# Altium footprint library General.PcbLib: 17 footprints (part 1 of 2)
Each footprint in its own frame and in the unit in brackets; x right, y up, seen from the top. Pads: shape width x height; smd on the part's side, far side on the other; paste and mask are expansions set on the pad; w line width, h text height; cw(c..) or ccw(c..) is an arc to the next point about the centre after c.
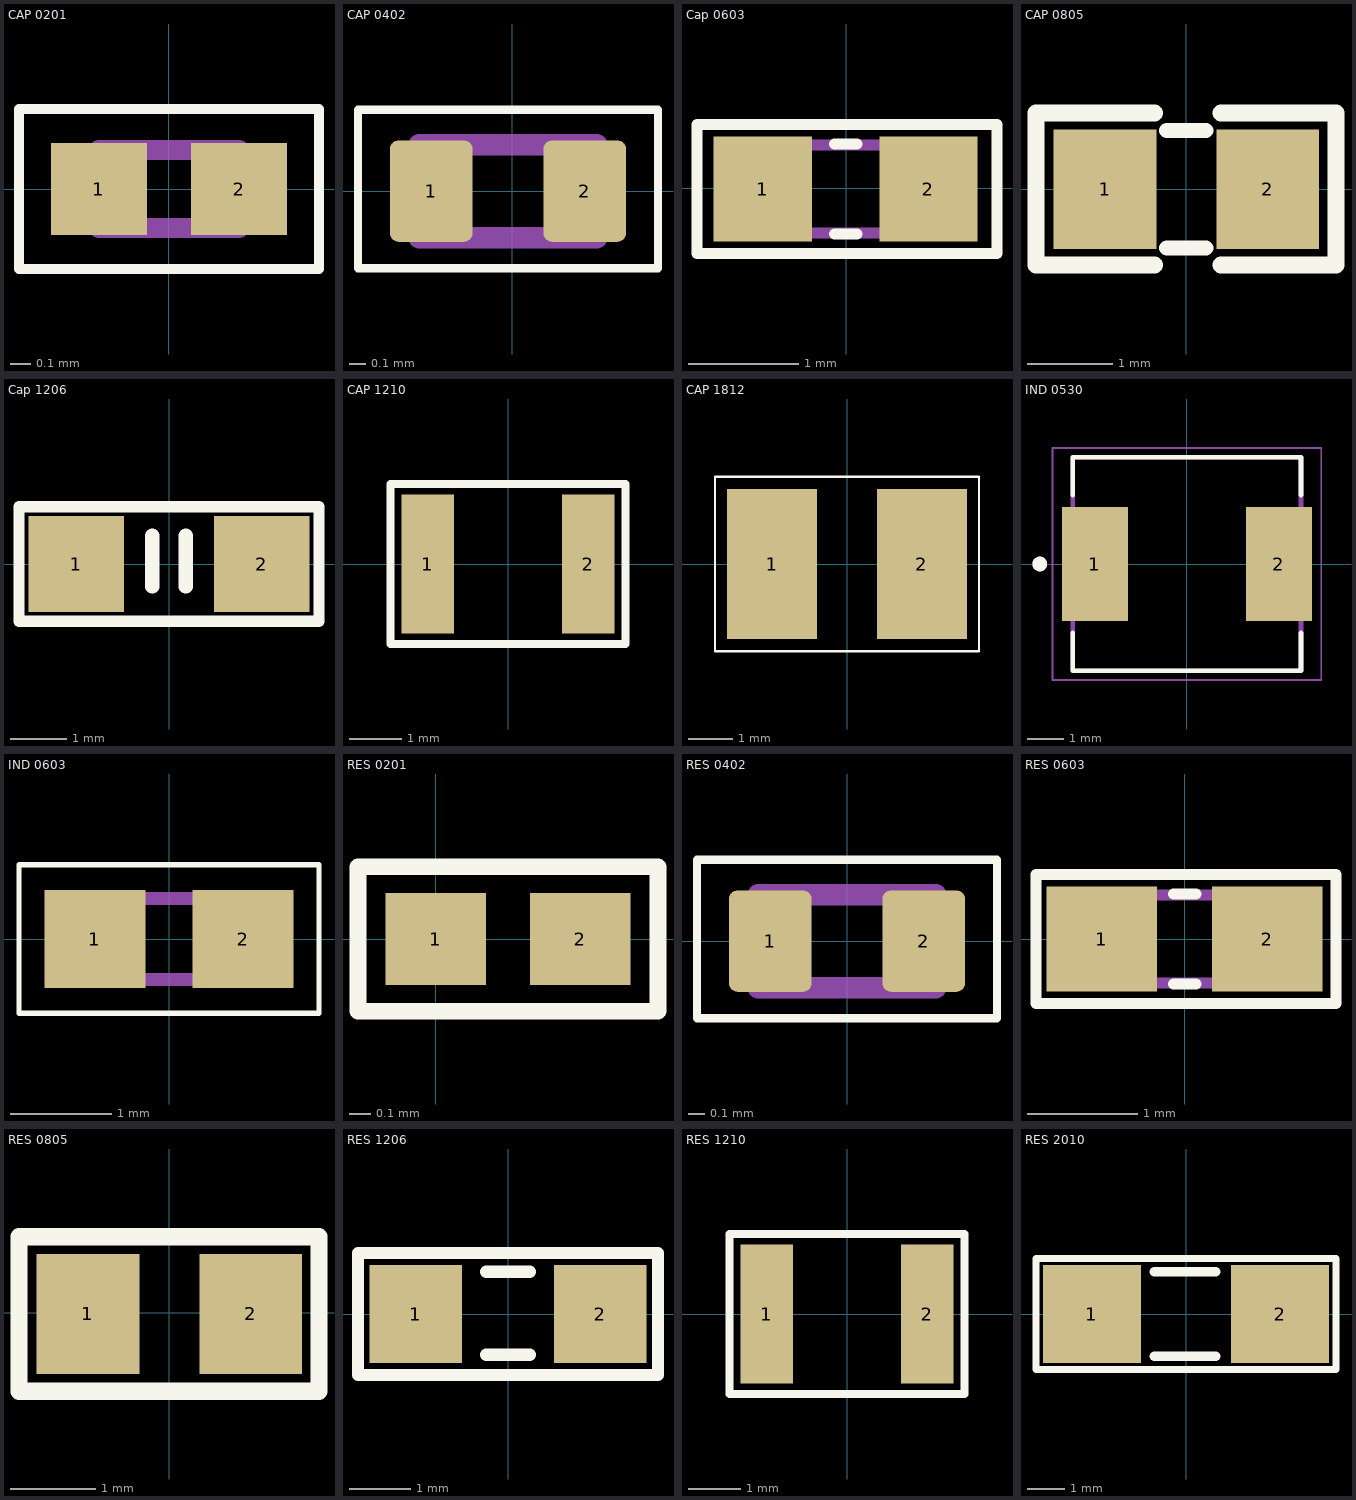
[diagram p0: the footprints below, top view; thin cyan lines are the x and y axes]

## CAP 0201 [mm] "Chip Capacitor, 2-Leads, Body 0.65x0.35mm, IPC Medium Density"
height 0.3
pads (2):
  rect 0.48x0.46 smd: 1(-0.35,0) 2(0.35,0)
Top Overlay:
  lines w0.05: -0.75,-0.4 -0.75,0.4 0.75,0.4 0.75,-0.4 -0.75,-0.4
Mechanical 13:
  lines w0.1: -0.35,-0.195 0.35,-0.195 0.35,0.195 -0.35,0.195 -0.35,-0.195
3D body "C0201.stp": height 0.32, standoff 0.02, extent -0.3,-0.15 0.3,0.15

## CAP 0402 [mm]
pads (2):
  rrect20% 0.49x0.6 smd: 1(-0.48,0) 2(0.43,0)
Top Overlay:
  lines w0.05: -0.914,-0.457 0.864,-0.457 0.864,0.483 -0.914,0.483 -0.914,-0.457
Mechanical 13:
  lines w0.127: -0.55,-0.275 0.5,-0.275 0.5,0.275 -0.55,0.275 -0.55,-0.275
3D body "C0402.stp": height 0.5, standoff 0, extent -0.525,-0.254 0.475,0.246

## Cap 0603 [mm]
height 5.08
pads (2):
  rect 0.889x0.95 smd mask+0.076: 1(-0.758,-0.008) 2(0.742,-0.008)
Top Overlay:
  lines w0.102: -0.109,-0.415 0.094,-0.415 ; -0.109,0.398 0.094,0.398 ; -1.354,-0.592 1.364,-0.592 1.364,0.576 -1.354,0.576 -1.354,-0.592
Mechanical 13:
  lines w0.1: -0.808,-0.408 0.792,-0.408 0.792,0.392 -0.808,0.392 -0.808,-0.408
3D body "C0603.stp": height 0.78, standoff -0.02, extent -0.775,-0.406 0.825,0.394

## CAP 0805 [mm] "Compoment SMD 80x50mil"
height 1.27
pads (2):
  rect 1.2x1.4 smd: 1(-0.946,-0.003) 2(0.954,-0.003)
Top Overlay:
  lines w0.178: -0.224,-0.689 0.233,-0.689 ; -0.224,0.682 0.233,0.682
  lines w0.2: -0.367,-0.889 -1.753,-0.889 -1.753,0.889 -0.367,0.889 ; 0.408,-0.889 1.753,-0.889 1.753,0.889 0.408,0.889
3D body "C0805.stp": height 1.23, standoff -0.02, extent -0.974,-0.615 1.026,0.635

## Cap 1206 [mm]
height 1.1
pads (2):
  rect 1.7x1.7 smd: 1(-1.65,0) 2(1.65,0)
Top Overlay:
  lines w0.2: -2.667,-1.016 -2.667,1.016 2.667,1.016 2.667,-0.483 2.667,-1.016 -2.667,-1.016
  lines w0.254: -0.3,-0.4 -0.3,0.5 ; 0.3,-0.4 0.3,0.5
3D body "1206 SMD Capacitor.step": height 1.02, standoff 0.02, extent -1.6,-0.8 1.6,0.8

## CAP 1210 [mm] "Chip Capacitor, 2-Leads, Body 3.20x2.50mm, IPC Medium Density"
height 1.7
pads (2):
  rect 1x2.65 smd: 1(-1.525,0) 2(1.525,0)
Top Overlay:
  lines w0.152: -2.235,-1.524 2.235,-1.524 2.235,1.524 -2.235,1.524 -2.235,-1.524
Mechanical 13:
  lines w0.1: -1.6,-1.25 -1.6,1.25 ; 1.6,-1.25 1.6,1.25
3D body "C1210.stp": height 2.02, standoff 0.02, extent -1.6,-1.25 1.6,1.25

## CAP 1812 [mm] "Chip Capacitor, 2-Leads, Body 4.50x3.20mm, IPC Medium Density"
height 3.5
pads (2):
  rect 2x3.35 smd: 1(-1.675,0) 2(1.675,0)
Top Overlay:
  lines w0.05: -2.95,-1.95 -2.95,1.95 2.95,1.95 2.95,-1.95 -2.95,-1.95
Mechanical 13:
  lines w0.1: -2.25,-1.6 -2.25,1.6 ; 2.25,-1.6 2.25,1.6
3D body "C1812.stp": height 2.62, standoff 0.02, extent -2.25,-1.6 2.25,1.6

## IND 0530 [mm] "IND SMD 0530"
pads (2):
  rect 1.8x3.1 smd: 1(-2.5,0) 2(2.5,0)
Top Overlay:
  circle w0.2: c-4,0 r0.1
  lines w0.127: -3.1,-1.863 -3.1,-2.9 3.1,-2.9 3.1,-1.863 ; -3.1,1.863 -3.1,2.9 3.1,2.9 3.1,1.863
Mechanical 13:
  circle w0.2: c-4,0 r0.1
  lines w0.127: -3.1,-2.9 -3.1,2.9 3.1,2.9 3.1,-2.9 -3.1,-2.9
Mechanical 15:
  lines w0.05: -3.65,-3.15 3.65,-3.15 3.65,3.15 -3.65,3.15 -3.65,-3.15
3D body "FDV0530-H-1R5M=P3--3DModel-STEP-46669.STEP": height 3, standoff 0, extent -3.1,-2.879 3.1,2.921

## IND 0603 [mm] "INDUCTOR 0603"
pads (2):
  rect 1x0.97 smd: 1(-0.735,0) 2(0.735,0)
Top Overlay:
  lines w0.05: -1.485,-0.735 1.485,-0.735 1.485,0.735 -1.485,0.735 -1.485,-0.735
Mechanical 13:
  lines w0.127: -0.8,-0.4 -0.8,0.4 0.8,0.4 0.8,-0.4 -0.8,-0.4
3D body "step_temp.STEP": height 0.95, standoff 0, extent -0.8,-0.4 0.8,0.4

## RES 0201 [mm]
pads (2):
  rect 0.46x0.42 smd: 1(0,0) 2(0.66,0)
Top Overlay:
  lines w0.076: -0.356,-0.33 -0.356,0.33 1.016,0.33 1.016,-0.33 -0.356,-0.33
3D body "R0201.step": height 0.23, standoff 0, extent 0.03,-0.15 0.63,0.15

## RES 0402 [mm]
pads (2):
  rrect20% 0.49x0.6 smd: 1(-0.455,0) 2(0.455,0)
Top Overlay:
  lines w0.05: -0.889,-0.457 0.889,-0.457 0.889,0.483 -0.889,0.483 -0.889,-0.457
Mechanical 13:
  lines w0.127: -0.525,-0.275 0.525,-0.275 0.525,0.275 -0.525,0.275 -0.525,-0.275
3D body "R0402.step": height 0.32, standoff 0, extent -0.475,-0.25 0.526,0.25

## RES 0603 [mm] "RES 0603"
height 0.5
pads (2):
  rect 1x0.95 smd mask+0.076: 1(-0.75,0) 2(0.75,0)
Top Overlay:
  lines w0.102: -0.102,-0.406 0.102,-0.406 ; -0.102,0.406 0.102,0.406 ; -1.346,-0.584 -1.346,0.584 1.372,0.584 1.372,-0.584 -1.346,-0.584
Mechanical 13:
  lines w0.1: -0.8,-0.4 -0.8,0.4 0.8,0.4 0.8,-0.4 -0.8,-0.4
3D body "R0603.step": height 0.45, standoff 0, extent -0.8,-0.4 0.8,0.4

## RES 0805 [mm]
pads (2):
  rect 1.2x1.4 smd: 1(-0.946,-0.01) 2(0.954,-0.01)
Top Overlay:
  lines w0.2: -0.381,-0.914 1.75,-0.914 1.75,0.889 -0.381,0.889 ; -0.367,-0.914 -1.75,-0.914 -1.75,0.889 -0.367,0.889
3D body "R0805.step": height 0.5, standoff 0, extent -1,-0.625 1,0.625

## RES 1206 [mm]
pads (2):
  rect 1.5x1.6 smd: 1(-1.5,0) 2(1.5,0)
Top Overlay:
  lines w0.2: -0.356,-0.66 0.356,-0.66 ; -0.356,0.686 0.356,0.686 ; -2.438,-0.991 -2.438,0.991 2.438,0.991 2.438,-0.203 2.438,-0.991 -2.438,-0.991
3D body "R1206.step": height 0.55, standoff 0, extent -1.55,-0.8 1.55,0.8

## RES 1210 [mm] "Chip Capacitor, 2-Leads, Body 3.20x2.50mm, IPC Medium Density"
height 1.7
pads (2):
  rect 1x2.65 smd: 1(-1.525,0) 2(1.525,0)
Top Overlay:
  lines w0.152: -2.235,-1.524 2.235,-1.524 2.235,1.524 -2.235,1.524 -2.235,-1.524
Mechanical 13:
  lines w0.1: -1.6,-1.25 -1.6,1.25 ; 1.6,-1.25 1.6,1.25
3D body "R1210.step": height 0.55, standoff 0, extent -1.55,-1.3 1.55,1.3

## RES 2010 [mm]
pads (2):
  rect 2.6x2.6 smd: 1(-2.5,0) 2(2.5,0)
Top Overlay:
  lines w0.178: -3.988,-1.473 3.988,-1.473 3.988,1.473 -3.988,1.473 -3.988,-1.473
  lines w0.254: -0.838,-1.118 0.787,-1.118 ; -0.838,1.118 0.787,1.118
3D body "Tro 2010.step": height 0.59, standoff -0.01, extent -2.5,-1.25 2.5,1.25